# EAGLE library part CAZ_24PWM_DRIVER (library caz_lib)
Adafruit 24-Channel 12-bit PWM LED Driver SPI Interface - TLC5947 ID: 1429 <http://www.adafruit.com/products/1429> $14.95 Datasheet <http://www.adafruit.com/datasheets/tlc5947.pdf> - GitHub <https://github.com/adafruit/Adafruit_TLC5947> Dimensions: 2.0" x 0.9" x 0.1"
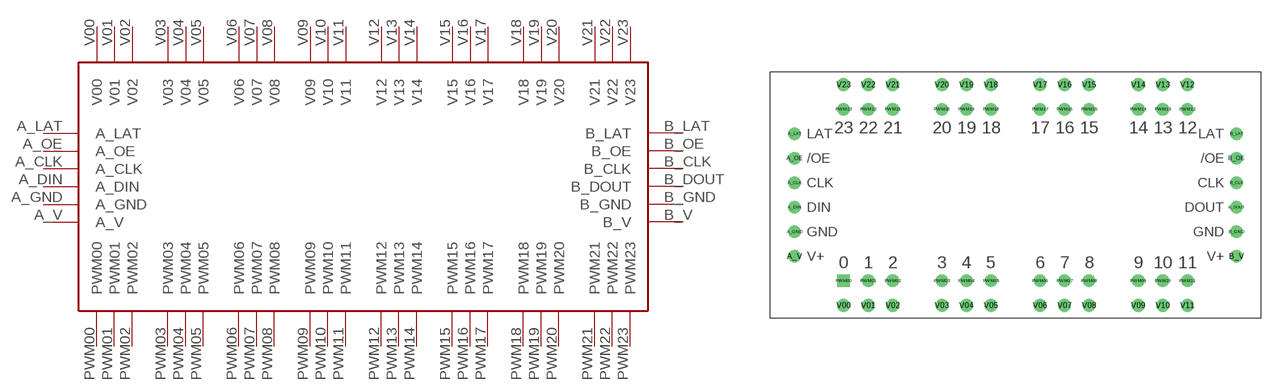
[diagram p1: symbol with the pads of CAZ_24PWM_DRIVER; footprint CAZ_24PWM_DRIVER]

Designator prefix -

## CAZ_24PWM_DRIVER  [CAZ_24PWM_DRIVER]
A_CLK  A_CLK
A_DIN  A_DIN
A_GND  A_GND
A_LAT  A_LAT
A_OE  A_OE
A_V  A_V
B_CLK  B_CLK
B_DOUT  B_DOUT
B_GND  B_GND
B_LAT  B_LAT
B_OE  B_OE
B_V  B_V
PWM00  PWM00
PWM01  PWM01
PWM02  PWM02
PWM03  PWM03
PWM04  PWM04
PWM05  PWM05
PWM06  PWM06
PWM07  PWM07
PWM08  PWM08
PWM09  PWM09
PWM10  PWM10
PWM11  PWM11
PWM12  PWM12
PWM13  PWM13
PWM14  PWM14
PWM15  PWM15
PWM16  PWM16
PWM17  PWM17
PWM18  PWM18
PWM19  PWM19
PWM20  PWM20
PWM21  PWM21
PWM22  PWM22
PWM23  PWM23
V00  V00
V01  V01
V02  V02
V03  V03
V04  V04
V05  V05
V06  V06
V07  V07
V08  V08
V09  V09
V10  V10
V11  V11
V12  V12
V13  V13
V14  V14
V15  V15
V16  V16
V17  V17
V18  V18
V19  V19
V20  V20
V21  V21
V22  V22
V23  V23

## Footprint CAZ_24PWM_DRIVER (pad centres in mm)
drill 0.8: A_CLK -22.86,1.27; A_DIN -22.86,-1.27; A_GND -22.86,-3.81; A_LAT -22.86,6.35; A_OE -22.86,3.81; A_V -22.86,-6.35; B_CLK 22.86,1.27; B_DOUT 22.86,-1.27; B_GND 22.86,-3.81; B_LAT 22.86,6.35; B_OE 22.86,3.81; B_V 22.86,-6.35; PWM01 -15.24,-8.89; PWM02 -12.7,-8.89; PWM03 -7.62,-8.89; PWM04 -5.08,-8.89; PWM05 -2.54,-8.89; PWM06 2.54,-8.89; PWM07 5.08,-8.89; PWM08 7.62,-8.89; PWM09 12.7,-8.89; PWM10 15.24,-8.89; PWM11 17.78,-8.89; PWM12 17.78,8.89; PWM13 15.24,8.89; PWM14 12.7,8.89; PWM15 7.62,8.89; PWM16 5.08,8.89; PWM17 2.54,8.89; PWM18 -2.54,8.89; PWM19 -5.08,8.89; PWM20 -7.62,8.89; PWM21 -12.7,8.89; PWM22 -15.24,8.89; PWM23 -17.78,8.89; V00 -17.78,-11.43; V01 -15.24,-11.43; V02 -12.7,-11.43; V03 -7.62,-11.43; V04 -5.08,-11.43; V05 -2.54,-11.43; V06 2.54,-11.43; V07 5.08,-11.43; V08 7.62,-11.43; V09 12.7,-11.43; V10 15.24,-11.43; V11 17.78,-11.43; V12 17.78,11.43; V13 15.24,11.43; V14 12.7,11.43; V15 7.62,11.43; V16 5.08,11.43; V17 2.54,11.43; V18 -2.54,11.43; V19 -5.08,11.43; V20 -7.62,11.43; V21 -12.7,11.43; V22 -15.24,11.43; V23 -17.78,11.43
drill 0.8 square: PWM00 -17.78,-8.89